# EAGLE library part PL2303HX (library trosh_devices.eagle.v9)
USB to serial bridge controller
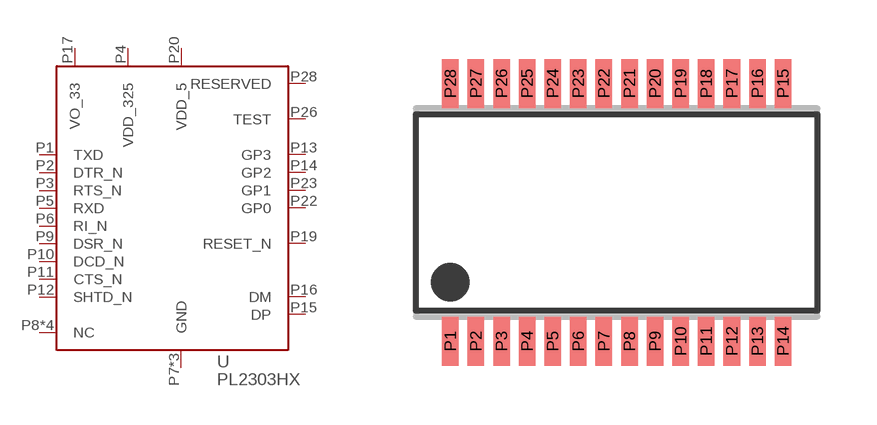
[diagram p3: symbol with the pads of SSOP-28; footprint SSOP-28]

Designator prefix U

## PL2303HX  [SSOP-28]
P1  TXD  out
P2  DTR_N  out
P3  RTS_N  out
P4  VDD_325  pwr
P5  RXD  in
P6  RI_N
P7  GND  pwr
P8  NC  nc
P9  DSR_N
P10  DCD_N
P11  CTS_N
P12  SHTD_N  out
P13  GP3
P14  GP2
P15  DP
P16  DM
P17  VO_33  pwr
P18  GND  pwr
P19  RESET_N  in
P20  VDD_5
P21  NC  nc
P22  GP0
P23  GP1
P24  NC  nc
P25  GND  pwr
P26  TEST  in
P27  NC  nc
P28  RESERVED

## Footprint SSOP-28 (pad centres in mm)
smd 0.42 x 1.25: P1 -4.225,-3.275; P2 -3.575,-3.275; P3 -2.925,-3.275; P4 -2.275,-3.275; P5 -1.625,-3.275; P6 -0.975,-3.275; P7 -0.325,-3.275; P8 0.325,-3.275; P9 0.975,-3.275; P10 1.625,-3.275; P11 2.275,-3.275; P12 2.925,-3.275; P13 3.575,-3.275; P14 4.225,-3.275; P15 4.225,3.275; P16 3.575,3.275; P17 2.925,3.275; P18 2.275,3.275; P19 1.625,3.275; P20 0.975,3.275; P21 0.325,3.275; P22 -0.325,3.275; P23 -0.975,3.275; P24 -1.625,3.275; P25 -2.275,3.275; P26 -2.925,3.275; P27 -3.575,3.275; P28 -4.225,3.275